# Altium footprint library WE-CHSA.PcbLib: 3 footprints
Each footprint in its own frame and in the unit in brackets; x right, y up, seen from the top. Pads: shape width x height; smd on the part's side, far side on the other; paste and mask are expansions set on the pad; w line width, h text height; cw(c..) or ccw(c..) is an arc to the next point about the centre after c.
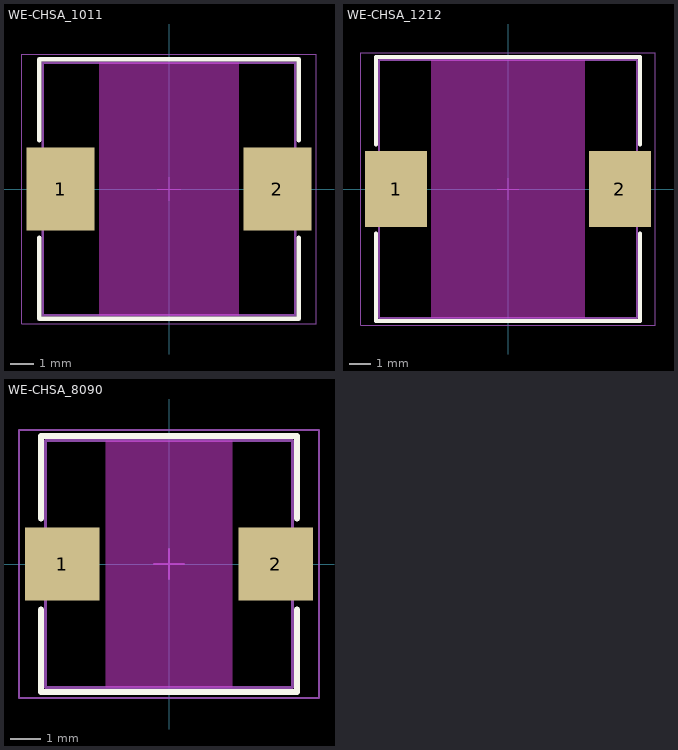
[diagram p0: the footprints below, top view; thin cyan lines are the x and y axes]

## WE-CHSA_1011 [mm] "SMT High Current Inductor, 2-Leads, body 10.6x10.6mm"
height 11.3
pads (2):
  rect 2.85x3.5 smd: 1(-4.55,0) 2(4.55,0)
Top Layer keep-out:
  region: -2.925,5.3 2.925,5.3 2.925,-5.3 -2.925,-5.3
Top Overlay:
  lines w0.2: -5.45,-2.05 -5.45,-5.45 5.45,-5.45 5.45,-2.05 ; -5.45,2.05 -5.45,5.45 5.45,5.45 5.45,2.05
Top Designator:
  text ".Designator" at -7.498,-0.5 h1.5
Top Component Outline:
  lines w0.1: -5.3,-5.3 -5.3,5.3 5.3,5.3 5.3,-5.3 -5.3,-5.3
Top 3D Body:
  lines w0.1: -5.3,-5.3 5.3,-5.3 5.3,5.3 -5.3,5.3 -5.3,-5.3
Top Courtyard:
  lines w0.05: -0.5,0 0.5,0 ; 0,-0.5 0,0.5 ; -6.175,-5.65 -6.175,5.65 6.175,5.65 6.175,-5.65 -6.175,-5.65
3D body "784333xxx.stp": height 11, standoff 0, extent -5.3,-5.3 5.3,5.3

## WE-CHSA_1212 [mm] "SMT High Current Inductor, 2-Leads, body 12.2x12.2mm"
height 12.05
pads (2):
  rect 2.95x3.6 smd: 1(-5.3,0) 2(5.3,0)
Top Layer keep-out:
  region: -3.625,6.1 3.625,6.1 3.625,-6.1 -3.625,-6.1
Top Overlay:
  lines w0.2: -6.25,-2.1 -6.25,-6.25 6.25,-6.25 6.25,-2.1 ; -6.25,2.1 -6.25,6.25 6.25,6.25 6.25,2.1
Top Designator:
  text ".Designator" at -7.498,-0.5 h1.5
Top Component Outline:
  lines w0.1: -6.1,-6.1 6.1,-6.1 6.1,6.1 -6.1,6.1 -6.1,-6.1
Top 3D Body:
  lines w0.1: -6.1,-6.1 -6.1,6.1 6.1,6.1 6.1,-6.1 -6.1,-6.1
Top Courtyard:
  lines w0.05: -0.5,0 0.5,0 ; 0,-0.5 0,0.5 ; -6.975,-6.45 -6.975,6.45 6.975,6.45 6.975,-6.45 -6.975,-6.45
3D body "784332xxx.stp": height 11.75, standoff 0, extent -6.1,-6.1 6.1,6.1

## WE-CHSA_8090 [mm] "SMT High Current Inductor, 2-Leads, body 8.1x8.1mm"
height 9.3
pads (2):
  rect 2.45x2.4 smd: 1(-3.5,0) 2(3.5,0)
Top Layer keep-out:
  region: -2.075,4.05 2.075,4.05 2.075,-4.05 -2.075,-4.05
Top Overlay:
  lines w0.2: -4.2,-1.5 -4.2,-4.2 4.2,-4.2 4.2,-1.5 ; -4.2,1.5 -4.2,4.2 4.2,4.2 4.2,1.5
Top Designator:
  text ".Designator" at -7.498,-0.5 h1.5
Top Component Outline:
  lines w0.1: -4.05,-4.05 -4.05,4.05 4.05,4.05 4.05,-4.05 -4.05,-4.05
Top 3D Body:
  lines w0.1: -4.05,-4.05 4.05,-4.05 4.05,4.05 -4.05,4.05 -4.05,-4.05
Top Courtyard:
  lines w0.05: -0.5,0 0.5,0 ; 0,-0.5 0,0.5 ; -4.925,-4.4 -4.925,4.4 4.925,4.4 4.925,-4.4 -4.925,-4.4
3D body "784334xxx.stp": height 9, standoff 0, extent -4.05,-4.05 4.05,4.05